# Altium footprint library Connector_Samtec_HSEC8.PcbLib: 133 footprints (part 3 of 9)
Each footprint in its own frame and in the unit in brackets; x right, y up, seen from the top. Pads: shape width x height; smd on the part's side, far side on the other; paste and mask are expansions set on the pad; w line width, h text height; cw(c..) or ccw(c..) is an arc to the next point about the centre after c.
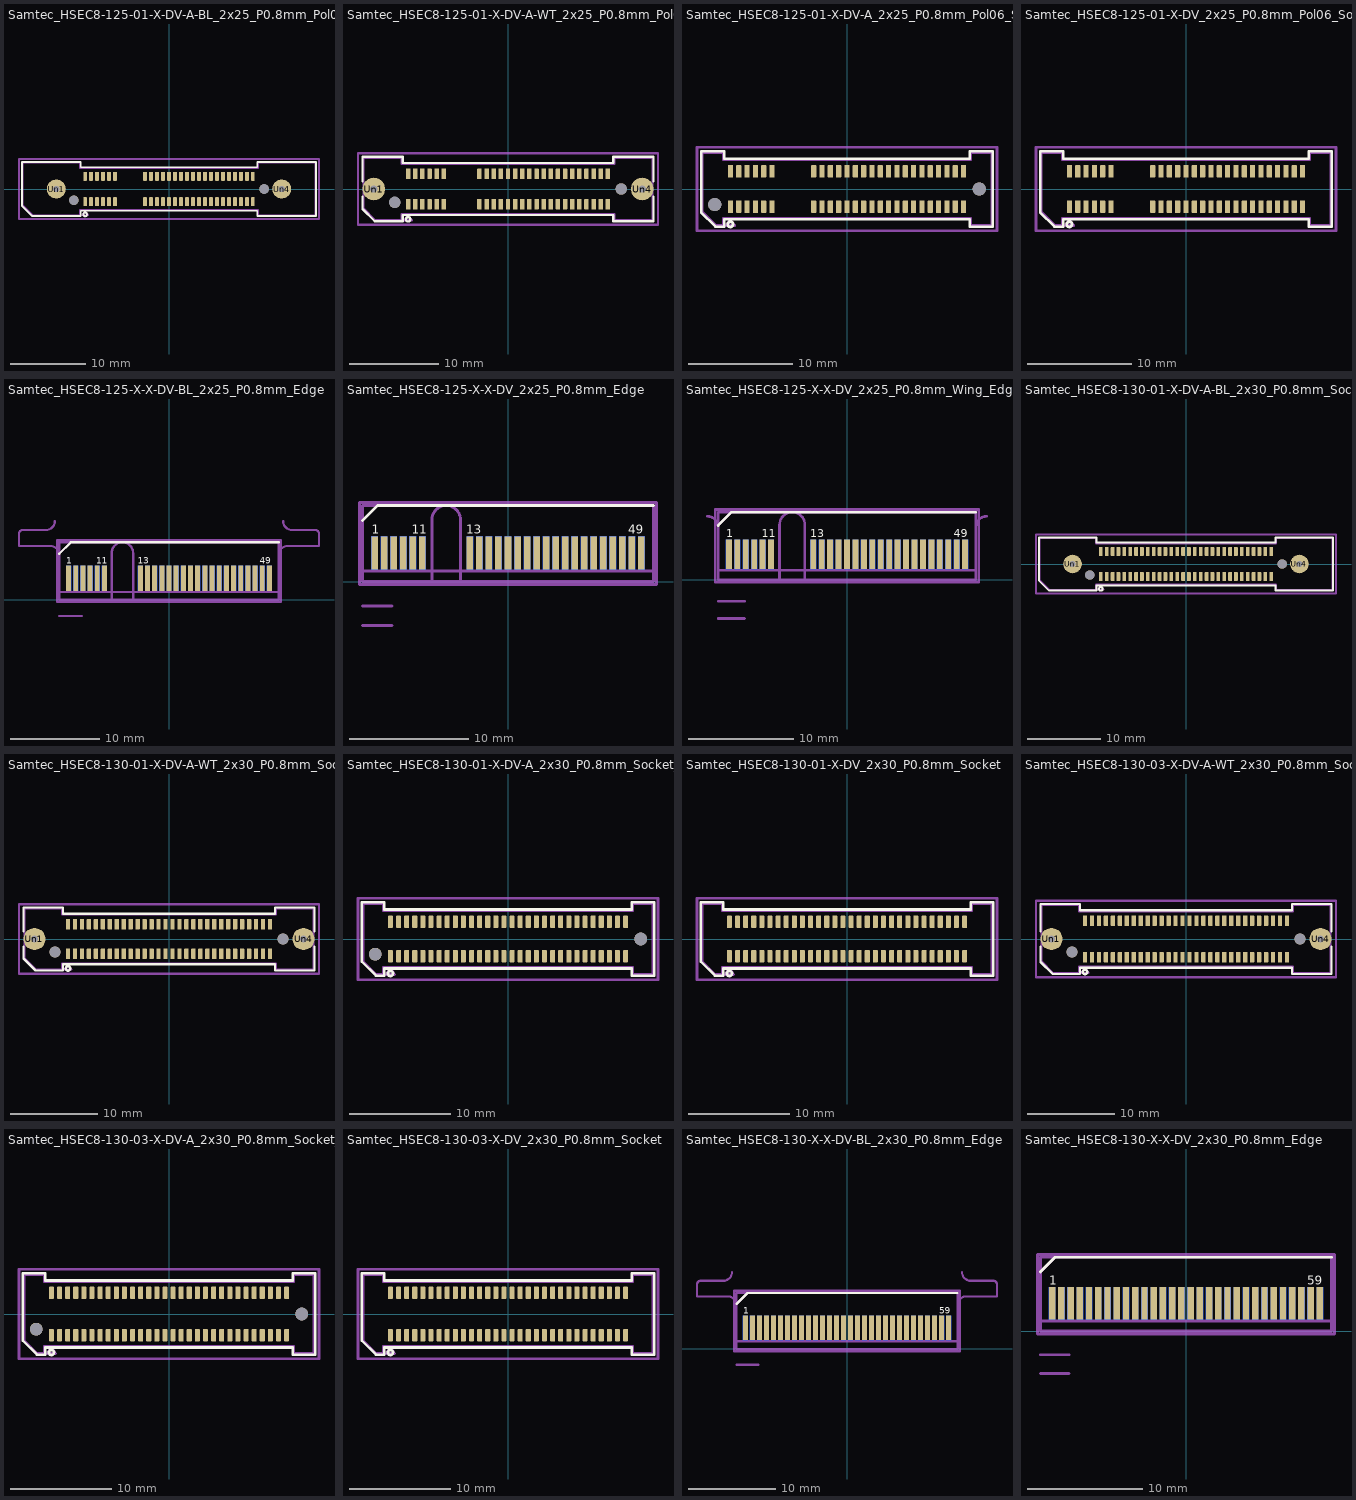
[diagram p2: the footprints below, top view; thin cyan lines are the x and y axes]

## Samtec_HSEC8-125-01-X-DV-A-BL_2x25_P0.8mm_Pol06_Socket_WeldTabs_BoardLocks [mm]
pads (54):
  rrect25% 0.5x1.2 smd: 1(-11.2,-1.7) 2(-11.2,1.7) 3(-10.4,-1.7) 4(-10.4,1.7) 5(-9.6,-1.7) 6(-9.6,1.7) 7(-8.8,-1.7) 8(-8.8,1.7) 9(-8,-1.7) 10(-8,1.7) 11(-7.2,-1.7) 12(-7.2,1.7) 13(-3.2,-1.7) 14(-3.2,1.7) 15(-2.4,-1.7) 16(-2.4,1.7) 17(-1.6,-1.7) 18(-1.6,1.7) 19(-0.8,-1.7) 20(-0.8,1.7) 21(0,-1.7) 22(0,1.7) 23(0.8,-1.7) 24(0.8,1.7) 25(1.6,-1.7) 26(1.6,1.7) 27(2.4,-1.7) 28(2.4,1.7) 29(3.2,-1.7) 30(3.2,1.7) 31(4,-1.7) 32(4,1.7) 33(4.8,-1.7) 34(4.8,1.7) 35(5.6,-1.7) 36(5.6,1.7) 37(6.4,-1.7) 38(6.4,1.7) 39(7.2,-1.7) 40(7.2,1.7) 41(8,-1.7) 42(8,1.7) 43(8.8,-1.7) 44(8.8,1.7) 45(9.6,-1.7) 46(9.6,1.7) 47(10.4,-1.7) 48(10.4,1.7) 49(11.2,-1.7) 50(11.2,1.7)
  round 2.54 hole 0.84: Un1(-15.05,0) Un4(15.05,0)
  round 1.27 hole 1.27: Un2(-12.7,-1.5) Un3(12.7,0)
F.SilkS:
  circle w0.254: c-11.2,-3.4 r0.25
  lines w0.254: -19.635,-2.246 -18.271,-3.61 -11.79,-3.61 -11.79,-2.91 11.79,-2.91 11.79,-3.61 19.635,-3.61 19.635,3.61 11.79,3.61 11.79,2.91 -11.79,2.91 -11.79,3.61 -19.635,3.61 -19.635,-2.246
Top Assembly:
  lines w0.254: -19.525,-2.2 -18.225,-3.5 -11.9,-3.5 -11.9,-2.8 11.9,-2.8 11.9,-3.5 19.525,-3.5 19.525,3.5 11.9,3.5 11.9,2.8 -11.9,2.8 -11.9,3.5 -19.525,3.5 -19.525,-2.2 ; -11.6,-3.5 -10.8,-3.5 -11.2,-2.86 -11.6,-3.5
  text "'.Designator'" at -4.047,-0.84 h1
Top Courtyard:
  lines w0.254: -20.03,-4 20.03,-4 20.03,4 -20.03,4 -20.03,-4
Top Designator:
  text ".Designator" at -7.618,-0.508 h1.52

## Samtec_HSEC8-125-01-X-DV-A-WT_2x25_P0.8mm_Pol06_Socket_WeldTabs [mm]
pads (54):
  rrect25% 0.5x1.2 smd: 1(-11.2,-1.7) 2(-11.2,1.7) 3(-10.4,-1.7) 4(-10.4,1.7) 5(-9.6,-1.7) 6(-9.6,1.7) 7(-8.8,-1.7) 8(-8.8,1.7) 9(-8,-1.7) 10(-8,1.7) 11(-7.2,-1.7) 12(-7.2,1.7) 13(-3.2,-1.7) 14(-3.2,1.7) 15(-2.4,-1.7) 16(-2.4,1.7) 17(-1.6,-1.7) 18(-1.6,1.7) 19(-0.8,-1.7) 20(-0.8,1.7) 21(0,-1.7) 22(0,1.7) 23(0.8,-1.7) 24(0.8,1.7) 25(1.6,-1.7) 26(1.6,1.7) 27(2.4,-1.7) 28(2.4,1.7) 29(3.2,-1.7) 30(3.2,1.7) 31(4,-1.7) 32(4,1.7) 33(4.8,-1.7) 34(4.8,1.7) 35(5.6,-1.7) 36(5.6,1.7) 37(6.4,-1.7) 38(6.4,1.7) 39(7.2,-1.7) 40(7.2,1.7) 41(8,-1.7) 42(8,1.7) 43(8.8,-1.7) 44(8.8,1.7) 45(9.6,-1.7) 46(9.6,1.7) 47(10.4,-1.7) 48(10.4,1.7) 49(11.2,-1.7) 50(11.2,1.7)
  round 2.54 hole 0.84: Un1(-15.05,0) Un4(15.05,0)
  round 1.27 hole 1.27: Un2(-12.7,-1.5) Un3(12.7,0)
F.SilkS:
  circle w0.254: c-11.2,-3.4 r0.25
  lines w0.254: -16.31,-0.868 -16.31,-2.246 -14.946,-3.61 -11.79,-3.61 -11.79,-2.91 11.79,-2.91 11.79,-3.61 16.31,-3.61 16.31,-0.868 ; -16.31,0.868 -16.31,3.61 -11.79,3.61 -11.79,2.91 11.79,2.91 11.79,3.61 16.31,3.61 16.31,0.868
Top Assembly:
  lines w0.254: -16.2,-2.2 -14.9,-3.5 -11.9,-3.5 -11.9,-2.8 11.9,-2.8 11.9,-3.5 16.2,-3.5 16.2,3.5 11.9,3.5 11.9,2.8 -11.9,2.8 -11.9,3.5 -16.2,3.5 -16.2,-2.2 ; -11.6,-3.5 -10.8,-3.5 -11.2,-2.86 -11.6,-3.5
  text "'.Designator'" at -4.047,-0.84 h1
Top Courtyard:
  lines w0.254: -16.82,-4 16.82,-4 16.82,4 -16.82,4 -16.82,-4
Top Designator:
  text ".Designator" at -7.618,-0.508 h1.52

## Samtec_HSEC8-125-01-X-DV-A_2x25_P0.8mm_Pol06_Socket_AlignmentPins [mm]
pads (52):
  rrect25% 0.5x1.2 smd: 1(-11.2,-1.7) 2(-11.2,1.7) 3(-10.4,-1.7) 4(-10.4,1.7) 5(-9.6,-1.7) 6(-9.6,1.7) 7(-8.8,-1.7) 8(-8.8,1.7) 9(-8,-1.7) 10(-8,1.7) 11(-7.2,-1.7) 12(-7.2,1.7) 13(-3.2,-1.7) 14(-3.2,1.7) 15(-2.4,-1.7) 16(-2.4,1.7) 17(-1.6,-1.7) 18(-1.6,1.7) 19(-0.8,-1.7) 20(-0.8,1.7) 21(0,-1.7) 22(0,1.7) 23(0.8,-1.7) 24(0.8,1.7) 25(1.6,-1.7) 26(1.6,1.7) 27(2.4,-1.7) 28(2.4,1.7) 29(3.2,-1.7) 30(3.2,1.7) 31(4,-1.7) 32(4,1.7) 33(4.8,-1.7) 34(4.8,1.7) 35(5.6,-1.7) 36(5.6,1.7) 37(6.4,-1.7) 38(6.4,1.7) 39(7.2,-1.7) 40(7.2,1.7) 41(8,-1.7) 42(8,1.7) 43(8.8,-1.7) 44(8.8,1.7) 45(9.6,-1.7) 46(9.6,1.7) 47(10.4,-1.7) 48(10.4,1.7) 49(11.2,-1.7) 50(11.2,1.7)
  round 1.27 hole 1.27: Un1(-12.7,-1.5) Un2(12.7,0)
F.SilkS:
  circle w0.254: c-11.2,-3.4 r0.25
  lines w0.254: -14.01,-2.246 -12.646,-3.61 -11.79,-3.61 -11.79,-2.91 11.79,-2.91 11.79,-3.61 14.01,-3.61 14.01,3.61 11.79,3.61 11.79,2.91 -11.79,2.91 -11.79,3.61 -14.01,3.61 -14.01,-2.246
Top Assembly:
  lines w0.254: -13.9,-2.2 -12.6,-3.5 -11.9,-3.5 -11.9,-2.8 11.9,-2.8 11.9,-3.5 13.9,-3.5 13.9,3.5 11.9,3.5 11.9,2.8 -11.9,2.8 -11.9,3.5 -13.9,3.5 -13.9,-2.2 ; -11.6,-3.5 -10.8,-3.5 -11.2,-2.86 -11.6,-3.5
  text "'.Designator'" at -4.047,-0.84 h1
Top Courtyard:
  lines w0.254: -14.41,-4 14.41,-4 14.41,4 -14.41,4 -14.41,-4
Top Designator:
  text ".Designator" at -7.618,-0.508 h1.52

## Samtec_HSEC8-125-01-X-DV_2x25_P0.8mm_Pol06_Socket [mm]
pads (50):
  rrect25% 0.5x1.2 smd: 1(-11.2,-1.7) 2(-11.2,1.7) 3(-10.4,-1.7) 4(-10.4,1.7) 5(-9.6,-1.7) 6(-9.6,1.7) 7(-8.8,-1.7) 8(-8.8,1.7) 9(-8,-1.7) 10(-8,1.7) 11(-7.2,-1.7) 12(-7.2,1.7) 13(-3.2,-1.7) 14(-3.2,1.7) 15(-2.4,-1.7) 16(-2.4,1.7) 17(-1.6,-1.7) 18(-1.6,1.7) 19(-0.8,-1.7) 20(-0.8,1.7) 21(0,-1.7) 22(0,1.7) 23(0.8,-1.7) 24(0.8,1.7) 25(1.6,-1.7) 26(1.6,1.7) 27(2.4,-1.7) 28(2.4,1.7) 29(3.2,-1.7) 30(3.2,1.7) 31(4,-1.7) 32(4,1.7) 33(4.8,-1.7) 34(4.8,1.7) 35(5.6,-1.7) 36(5.6,1.7) 37(6.4,-1.7) 38(6.4,1.7) 39(7.2,-1.7) 40(7.2,1.7) 41(8,-1.7) 42(8,1.7) 43(8.8,-1.7) 44(8.8,1.7) 45(9.6,-1.7) 46(9.6,1.7) 47(10.4,-1.7) 48(10.4,1.7) 49(11.2,-1.7) 50(11.2,1.7)
F.SilkS:
  circle w0.254: c-11.2,-3.4 r0.25
  lines w0.254: -14.01,-2.246 -12.646,-3.61 -11.79,-3.61 -11.79,-2.91 11.79,-2.91 11.79,-3.61 14.01,-3.61 14.01,3.61 11.79,3.61 11.79,2.91 -11.79,2.91 -11.79,3.61 -14.01,3.61 -14.01,-2.246
Top Assembly:
  lines w0.254: -13.9,-2.2 -12.6,-3.5 -11.9,-3.5 -11.9,-2.8 11.9,-2.8 11.9,-3.5 13.9,-3.5 13.9,3.5 11.9,3.5 11.9,2.8 -11.9,2.8 -11.9,3.5 -13.9,3.5 -13.9,-2.2 ; -11.6,-3.5 -10.8,-3.5 -11.2,-2.86 -11.6,-3.5
  text "'.Designator'" at -4.047,-0.84 h1
Top Courtyard:
  lines w0.254: -14.41,-4 14.41,-4 14.41,4 -14.41,4 -14.41,-4
Top Designator:
  text ".Designator" at -7.618,-0.508 h1.52

## Samtec_HSEC8-125-X-X-DV-BL_2x25_P0.8mm_Edge [mm]
pads (50):
  rect 0.55x2.8 smd: 1(-11.2,2.4) 3(-10.4,2.4) 5(-9.6,2.4) 7(-8.8,2.4) 9(-8,2.4) 11(-7.2,2.4) 13(-3.2,2.4) 15(-2.4,2.4) 17(-1.6,2.4) 19(-0.8,2.4) 21(0,2.4) 23(0.8,2.4) 25(1.6,2.4) 27(2.4,2.4) 29(3.2,2.4) 31(4,2.4) 33(4.8,2.4) 35(5.6,2.4) 37(6.4,2.4) 39(7.2,2.4) 41(8,2.4) 43(8.8,2.4) 45(9.6,2.4) 47(10.4,2.4) 49(11.2,2.4)
  rect 0.55x2.8 smd far side: 2(-11.2,2.4) 4(-10.4,2.4) 6(-9.6,2.4) 8(-8.8,2.4) 10(-8,2.4) 12(-7.2,2.4) 14(-3.2,2.4) 16(-2.4,2.4) 18(-1.6,2.4) 20(-0.8,2.4) 22(0,2.4) 24(0.8,2.4) 26(1.6,2.4) 28(2.4,2.4) 30(3.2,2.4) 32(4,2.4) 34(4.8,2.4) 36(5.6,2.4) 38(6.4,2.4) 40(7.2,2.4) 42(8,2.4) 44(8.8,2.4) 46(9.6,2.4) 48(10.4,2.4) 50(11.2,2.4)
F.SilkS:
  lines w0.254: -12.225,5.13 -10.955,6.4 12.225,6.4
  text "49" at 10.109,4.025 h0.75
  text "13" at -3.5,4.025 h0.75
  text "11" at -8.089,4.025 h0.75
  text "1" at -11.439,4.025 h0.75
B.SilkS:
  lines w0.254: -12.225,6.4 12.225,6.4
  text "50" at 11.559,4.025 h0.75
  text "14" at -2.132,4.025 h0.75
  text "12" at -6.9,4.025 h0.75
  text "2" at -10.8,4.025 h0.75
Top Assembly:
  lines w0.254: -12.225,0.88 12.225,0.88 ; -12.225,0 12.225,0 12.225,6.4 -10.955,6.4 -12.225,5.13 -12.225,0
  text "'.Designator'" at -4.047,1.7 h1
Bottom Assembly:
  lines w0.254: -12.225,0.88 12.225,0.88 ; -12.225,0 12.225,0 12.225,6.4 -12.225,6.4 -12.225,0
Top Courtyard:
  lines w0.254: -12.48,-0.25 12.48,-0.25 12.48,6.65 -12.48,6.65 -12.48,-0.25
Bottom Courtyard:
  lines w0.254: -12.48,-0.25 12.48,-0.25 12.48,6.65 -12.48,6.65 -12.48,-0.25
Top Designator:
  text ".Designator" at -7.618,2.485 h1.52
Board Shape:
  lines w0.254: -12.725,8.78 cw(c-13.725,8.78) -13.725,7.78 -16.325,7.78 ccw(c-16.325,7.38) -16.725,7.38 -16.725,6 -13.225,6 cw(c-13.225,5) -12.225,5 -12.225,0 -6.395,0 -6.395,5.2 cw(c-5.195,5.2) -3.995,5.2 -3.995,0 12.225,0 12.225,5 cw(c13.225,5) 13.225,6 16.725,6 16.725,7.38 ccw(c16.325,7.38) 16.325,7.78 13.725,7.78 cw(c13.725,8.78) 12.725,8.78
Cmts.User:
  lines w0.254: -12.225,-1.8 -9.725,-1.8
  text "mated PCB distance: 1.80 mm (ref)" at -9.63,-2.521 h0.75
  text "Chamfer 30 degree 0.45 mm" at -7.868,-0.21 h0.75

## Samtec_HSEC8-125-X-X-DV_2x25_P0.8mm_Edge [mm]
pads (50):
  rect 0.55x2.8 smd: 1(-11.2,2.4) 3(-10.4,2.4) 5(-9.6,2.4) 7(-8.8,2.4) 9(-8,2.4) 11(-7.2,2.4) 13(-3.2,2.4) 15(-2.4,2.4) 17(-1.6,2.4) 19(-0.8,2.4) 21(0,2.4) 23(0.8,2.4) 25(1.6,2.4) 27(2.4,2.4) 29(3.2,2.4) 31(4,2.4) 33(4.8,2.4) 35(5.6,2.4) 37(6.4,2.4) 39(7.2,2.4) 41(8,2.4) 43(8.8,2.4) 45(9.6,2.4) 47(10.4,2.4) 49(11.2,2.4)
  rect 0.55x2.8 smd far side: 2(-11.2,2.4) 4(-10.4,2.4) 6(-9.6,2.4) 8(-8.8,2.4) 10(-8,2.4) 12(-7.2,2.4) 14(-3.2,2.4) 16(-2.4,2.4) 18(-1.6,2.4) 20(-0.8,2.4) 22(0,2.4) 24(0.8,2.4) 26(1.6,2.4) 28(2.4,2.4) 30(3.2,2.4) 32(4,2.4) 34(4.8,2.4) 36(5.6,2.4) 38(6.4,2.4) 40(7.2,2.4) 42(8,2.4) 44(8.8,2.4) 46(9.6,2.4) 48(10.4,2.4) 50(11.2,2.4)
F.SilkS:
  lines w0.254: -12.225,5.13 -10.955,6.4 12.225,6.4
  text "49" at 10.109,4.025 h0.75
  text "13" at -3.5,4.025 h0.75
  text "11" at -8.089,4.025 h0.75
  text "1" at -11.439,4.025 h0.75
B.SilkS:
  lines w0.254: -12.225,6.4 12.225,6.4
  text "50" at 11.559,4.025 h0.75
  text "14" at -2.132,4.025 h0.75
  text "12" at -6.9,4.025 h0.75
  text "2" at -10.8,4.025 h0.75
Top Assembly:
  lines w0.254: -12.225,0.88 12.225,0.88 ; -12.225,0 12.225,0 12.225,6.4 -10.955,6.4 -12.225,5.13 -12.225,0
  text "'.Designator'" at -4.047,1.7 h1
Bottom Assembly:
  lines w0.254: -12.225,0.88 12.225,0.88 ; -12.225,0 12.225,0 12.225,6.4 -12.225,6.4 -12.225,0
Top Courtyard:
  lines w0.254: -12.48,-0.25 12.48,-0.25 12.48,6.65 -12.48,6.65 -12.48,-0.25
Bottom Courtyard:
  lines w0.254: -12.48,-0.25 12.48,-0.25 12.48,6.65 -12.48,6.65 -12.48,-0.25
Top Designator:
  text ".Designator" at -7.618,0.475 h1.52
Board Shape:
  lines w0.254: -12.225,5 -12.225,0 -6.395,0 -6.395,5.2 cw(c-5.195,5.2) -3.995,5.2 -3.995,0 12.225,0 12.225,5
Cmts.User:
  lines w0.254: -12.225,-3.69 -9.725,-3.69 ; -12.225,-2.05 -9.725,-2.05
  text "mated PCB distance: 3.69 mm (max)" at -9.63,-4.411 h0.75
  text "mated PCB distance: 2.05 mm (min)" at -9.63,-2.771 h0.75
  text "Chamfer 30 degree 0.45 mm" at -7.868,-0.21 h0.75

## Samtec_HSEC8-125-X-X-DV_2x25_P0.8mm_Wing_Edge [mm]
pads (50):
  rect 0.55x2.8 smd: 1(-11.2,2.4) 3(-10.4,2.4) 5(-9.6,2.4) 7(-8.8,2.4) 9(-8,2.4) 11(-7.2,2.4) 13(-3.2,2.4) 15(-2.4,2.4) 17(-1.6,2.4) 19(-0.8,2.4) 21(0,2.4) 23(0.8,2.4) 25(1.6,2.4) 27(2.4,2.4) 29(3.2,2.4) 31(4,2.4) 33(4.8,2.4) 35(5.6,2.4) 37(6.4,2.4) 39(7.2,2.4) 41(8,2.4) 43(8.8,2.4) 45(9.6,2.4) 47(10.4,2.4) 49(11.2,2.4)
  rect 0.55x2.8 smd far side: 2(-11.2,2.4) 4(-10.4,2.4) 6(-9.6,2.4) 8(-8.8,2.4) 10(-8,2.4) 12(-7.2,2.4) 14(-3.2,2.4) 16(-2.4,2.4) 18(-1.6,2.4) 20(-0.8,2.4) 22(0,2.4) 24(0.8,2.4) 26(1.6,2.4) 28(2.4,2.4) 30(3.2,2.4) 32(4,2.4) 34(4.8,2.4) 36(5.6,2.4) 38(6.4,2.4) 40(7.2,2.4) 42(8,2.4) 44(8.8,2.4) 46(9.6,2.4) 48(10.4,2.4) 50(11.2,2.4)
F.SilkS:
  lines w0.254: -12.225,5.13 -10.955,6.4 12.225,6.4
  text "49" at 10.109,4.025 h0.75
  text "13" at -3.5,4.025 h0.75
  text "11" at -8.089,4.025 h0.75
  text "1" at -11.439,4.025 h0.75
B.SilkS:
  lines w0.254: -12.225,6.4 12.225,6.4
  text "50" at 11.559,4.025 h0.75
  text "14" at -2.132,4.025 h0.75
  text "12" at -6.9,4.025 h0.75
  text "2" at -10.8,4.025 h0.75
Top Assembly:
  lines w0.254: -12.225,0.88 12.225,0.88 ; -12.225,0 12.225,0 12.225,6.4 -10.955,6.4 -12.225,5.13 -12.225,0
  text "'.Designator'" at -4.047,1.7 h1
Bottom Assembly:
  lines w0.254: -12.225,0.88 12.225,0.88 ; -12.225,0 12.225,0 12.225,6.4 -12.225,6.4 -12.225,0
Top Courtyard:
  lines w0.254: -12.48,-0.25 12.48,-0.25 12.48,6.65 -12.48,6.65 -12.48,-0.25
Bottom Courtyard:
  lines w0.254: -12.48,-0.25 12.48,-0.25 12.48,6.65 -12.48,6.65 -12.48,-0.25
Top Designator:
  text ".Designator" at -7.618,0.475 h1.52
Board Shape:
  lines w0.254: -13.225,6 cw(c-13.225,5) -12.225,5 -12.225,0 -6.395,0 -6.395,5.2 cw(c-5.195,5.2) -3.995,5.2 -3.995,0 12.225,0 12.225,5 cw(c13.225,5) 13.225,6
Cmts.User:
  lines w0.254: -12.225,-3.69 -9.725,-3.69 ; -12.225,-2.05 -9.725,-2.05
  text "mated PCB distance: 3.69 mm (max)" at -9.63,-4.411 h0.75
  text "mated PCB distance: 2.05 mm (min)" at -9.63,-2.771 h0.75
  text "Chamfer 30 degree 0.45 mm" at -7.868,-0.21 h0.75

## Samtec_HSEC8-130-01-X-DV-A-BL_2x30_P0.8mm_Socket_WeldTabs_BoardLocks [mm]
pads (64):
  rrect25% 0.5x1.2 smd: 1(-11.6,-1.7) 2(-11.6,1.7) 3(-10.8,-1.7) 4(-10.8,1.7) 5(-10,-1.7) 6(-10,1.7) 7(-9.2,-1.7) 8(-9.2,1.7) 9(-8.4,-1.7) 10(-8.4,1.7) 11(-7.6,-1.7) 12(-7.6,1.7) 13(-6.8,-1.7) 14(-6.8,1.7) 15(-6,-1.7) 16(-6,1.7) 17(-5.2,-1.7) 18(-5.2,1.7) 19(-4.4,-1.7) 20(-4.4,1.7) 21(-3.6,-1.7) 22(-3.6,1.7) 23(-2.8,-1.7) 24(-2.8,1.7) 25(-2,-1.7) 26(-2,1.7) 27(-1.2,-1.7) 28(-1.2,1.7) 29(-0.4,-1.7) 30(-0.4,1.7) 31(0.4,-1.7) 32(0.4,1.7) 33(1.2,-1.7) 34(1.2,1.7) 35(2,-1.7) 36(2,1.7) 37(2.8,-1.7) 38(2.8,1.7) 39(3.6,-1.7) 40(3.6,1.7) 41(4.4,-1.7) 42(4.4,1.7) 43(5.2,-1.7) 44(5.2,1.7) 45(6,-1.7) 46(6,1.7) 47(6.8,-1.7) 48(6.8,1.7) 49(7.6,-1.7) 50(7.6,1.7) 51(8.4,-1.7) 52(8.4,1.7) 53(9.2,-1.7) 54(9.2,1.7) 55(10,-1.7) 56(10,1.7) 57(10.8,-1.7) 58(10.8,1.7) 59(11.6,-1.7) 60(11.6,1.7)
  round 2.54 hole 0.84: Un1(-15.45,0) Un4(15.45,0)
  round 1.27 hole 1.27: Un2(-13.1,-1.5) Un3(13.1,0)
F.SilkS:
  circle w0.254: c-11.6,-3.4 r0.25
  lines w0.254: -20.035,-2.246 -18.671,-3.61 -12.19,-3.61 -12.19,-2.91 12.19,-2.91 12.19,-3.61 20.035,-3.61 20.035,3.61 12.19,3.61 12.19,2.91 -12.19,2.91 -12.19,3.61 -20.035,3.61 -20.035,-2.246
Top Assembly:
  lines w0.254: -19.925,-2.2 -18.625,-3.5 -12.3,-3.5 -12.3,-2.8 12.3,-2.8 12.3,-3.5 19.925,-3.5 19.925,3.5 12.3,3.5 12.3,2.8 -12.3,2.8 -12.3,3.5 -19.925,3.5 -19.925,-2.2 ; -12,-3.5 -11.2,-3.5 -11.6,-2.86 -12,-3.5
  text "'.Designator'" at -4.047,-0.84 h1
Top Courtyard:
  lines w0.254: -20.43,-4 20.43,-4 20.43,4 -20.43,4 -20.43,-4
Top Designator:
  text ".Designator" at -7.618,-0.508 h1.52

## Samtec_HSEC8-130-01-X-DV-A-WT_2x30_P0.8mm_Socket_WeldTabs [mm]
pads (64):
  rrect25% 0.5x1.2 smd: 1(-11.6,-1.7) 2(-11.6,1.7) 3(-10.8,-1.7) 4(-10.8,1.7) 5(-10,-1.7) 6(-10,1.7) 7(-9.2,-1.7) 8(-9.2,1.7) 9(-8.4,-1.7) 10(-8.4,1.7) 11(-7.6,-1.7) 12(-7.6,1.7) 13(-6.8,-1.7) 14(-6.8,1.7) 15(-6,-1.7) 16(-6,1.7) 17(-5.2,-1.7) 18(-5.2,1.7) 19(-4.4,-1.7) 20(-4.4,1.7) 21(-3.6,-1.7) 22(-3.6,1.7) 23(-2.8,-1.7) 24(-2.8,1.7) 25(-2,-1.7) 26(-2,1.7) 27(-1.2,-1.7) 28(-1.2,1.7) 29(-0.4,-1.7) 30(-0.4,1.7) 31(0.4,-1.7) 32(0.4,1.7) 33(1.2,-1.7) 34(1.2,1.7) 35(2,-1.7) 36(2,1.7) 37(2.8,-1.7) 38(2.8,1.7) 39(3.6,-1.7) 40(3.6,1.7) 41(4.4,-1.7) 42(4.4,1.7) 43(5.2,-1.7) 44(5.2,1.7) 45(6,-1.7) 46(6,1.7) 47(6.8,-1.7) 48(6.8,1.7) 49(7.6,-1.7) 50(7.6,1.7) 51(8.4,-1.7) 52(8.4,1.7) 53(9.2,-1.7) 54(9.2,1.7) 55(10,-1.7) 56(10,1.7) 57(10.8,-1.7) 58(10.8,1.7) 59(11.6,-1.7) 60(11.6,1.7)
  round 2.54 hole 0.84: Un1(-15.45,0) Un4(15.45,0)
  round 1.27 hole 1.27: Un2(-13.1,-1.5) Un3(13.1,0)
F.SilkS:
  circle w0.254: c-11.6,-3.4 r0.25
  lines w0.254: -16.71,-0.868 -16.71,-2.246 -15.346,-3.61 -12.19,-3.61 -12.19,-2.91 12.19,-2.91 12.19,-3.61 16.71,-3.61 16.71,-0.868 ; -16.71,0.868 -16.71,3.61 -12.19,3.61 -12.19,2.91 12.19,2.91 12.19,3.61 16.71,3.61 16.71,0.868
Top Assembly:
  lines w0.254: -16.6,-2.2 -15.3,-3.5 -12.3,-3.5 -12.3,-2.8 12.3,-2.8 12.3,-3.5 16.6,-3.5 16.6,3.5 12.3,3.5 12.3,2.8 -12.3,2.8 -12.3,3.5 -16.6,3.5 -16.6,-2.2 ; -12,-3.5 -11.2,-3.5 -11.6,-2.86 -12,-3.5
  text "'.Designator'" at -4.047,-0.84 h1
Top Courtyard:
  lines w0.254: -17.23,-4 17.23,-4 17.23,4 -17.23,4 -17.23,-4
Top Designator:
  text ".Designator" at -7.618,-0.508 h1.52

## Samtec_HSEC8-130-01-X-DV-A_2x30_P0.8mm_Socket_AlignmentPins [mm]
pads (62):
  rrect25% 0.5x1.2 smd: 1(-11.6,-1.7) 2(-11.6,1.7) 3(-10.8,-1.7) 4(-10.8,1.7) 5(-10,-1.7) 6(-10,1.7) 7(-9.2,-1.7) 8(-9.2,1.7) 9(-8.4,-1.7) 10(-8.4,1.7) 11(-7.6,-1.7) 12(-7.6,1.7) 13(-6.8,-1.7) 14(-6.8,1.7) 15(-6,-1.7) 16(-6,1.7) 17(-5.2,-1.7) 18(-5.2,1.7) 19(-4.4,-1.7) 20(-4.4,1.7) 21(-3.6,-1.7) 22(-3.6,1.7) 23(-2.8,-1.7) 24(-2.8,1.7) 25(-2,-1.7) 26(-2,1.7) 27(-1.2,-1.7) 28(-1.2,1.7) 29(-0.4,-1.7) 30(-0.4,1.7) 31(0.4,-1.7) 32(0.4,1.7) 33(1.2,-1.7) 34(1.2,1.7) 35(2,-1.7) 36(2,1.7) 37(2.8,-1.7) 38(2.8,1.7) 39(3.6,-1.7) 40(3.6,1.7) 41(4.4,-1.7) 42(4.4,1.7) 43(5.2,-1.7) 44(5.2,1.7) 45(6,-1.7) 46(6,1.7) 47(6.8,-1.7) 48(6.8,1.7) 49(7.6,-1.7) 50(7.6,1.7) 51(8.4,-1.7) 52(8.4,1.7) 53(9.2,-1.7) 54(9.2,1.7) 55(10,-1.7) 56(10,1.7) 57(10.8,-1.7) 58(10.8,1.7) 59(11.6,-1.7) 60(11.6,1.7)
  round 1.27 hole 1.27: Un1(-13.1,-1.5) Un2(13.1,0)
F.SilkS:
  circle w0.254: c-11.6,-3.4 r0.25
  lines w0.254: -14.41,-2.246 -13.046,-3.61 -12.19,-3.61 -12.19,-2.91 12.19,-2.91 12.19,-3.61 14.41,-3.61 14.41,3.61 12.19,3.61 12.19,2.91 -12.19,2.91 -12.19,3.61 -14.41,3.61 -14.41,-2.246
Top Assembly:
  lines w0.254: -14.3,-2.2 -13,-3.5 -12.3,-3.5 -12.3,-2.8 12.3,-2.8 12.3,-3.5 14.3,-3.5 14.3,3.5 12.3,3.5 12.3,2.8 -12.3,2.8 -12.3,3.5 -14.3,3.5 -14.3,-2.2 ; -12,-3.5 -11.2,-3.5 -11.6,-2.86 -12,-3.5
  text "'.Designator'" at -4.047,-0.84 h1
Top Courtyard:
  lines w0.254: -14.8,-4 14.8,-4 14.8,4 -14.8,4 -14.8,-4
Top Designator:
  text ".Designator" at -7.618,-0.508 h1.52

## Samtec_HSEC8-130-01-X-DV_2x30_P0.8mm_Socket [mm]
pads (60):
  rrect25% 0.5x1.2 smd: 1(-11.6,-1.7) 2(-11.6,1.7) 3(-10.8,-1.7) 4(-10.8,1.7) 5(-10,-1.7) 6(-10,1.7) 7(-9.2,-1.7) 8(-9.2,1.7) 9(-8.4,-1.7) 10(-8.4,1.7) 11(-7.6,-1.7) 12(-7.6,1.7) 13(-6.8,-1.7) 14(-6.8,1.7) 15(-6,-1.7) 16(-6,1.7) 17(-5.2,-1.7) 18(-5.2,1.7) 19(-4.4,-1.7) 20(-4.4,1.7) 21(-3.6,-1.7) 22(-3.6,1.7) 23(-2.8,-1.7) 24(-2.8,1.7) 25(-2,-1.7) 26(-2,1.7) 27(-1.2,-1.7) 28(-1.2,1.7) 29(-0.4,-1.7) 30(-0.4,1.7) 31(0.4,-1.7) 32(0.4,1.7) 33(1.2,-1.7) 34(1.2,1.7) 35(2,-1.7) 36(2,1.7) 37(2.8,-1.7) 38(2.8,1.7) 39(3.6,-1.7) 40(3.6,1.7) 41(4.4,-1.7) 42(4.4,1.7) 43(5.2,-1.7) 44(5.2,1.7) 45(6,-1.7) 46(6,1.7) 47(6.8,-1.7) 48(6.8,1.7) 49(7.6,-1.7) 50(7.6,1.7) 51(8.4,-1.7) 52(8.4,1.7) 53(9.2,-1.7) 54(9.2,1.7) 55(10,-1.7) 56(10,1.7) 57(10.8,-1.7) 58(10.8,1.7) 59(11.6,-1.7) 60(11.6,1.7)
F.SilkS:
  circle w0.254: c-11.6,-3.4 r0.25
  lines w0.254: -14.41,-2.246 -13.046,-3.61 -12.19,-3.61 -12.19,-2.91 12.19,-2.91 12.19,-3.61 14.41,-3.61 14.41,3.61 12.19,3.61 12.19,2.91 -12.19,2.91 -12.19,3.61 -14.41,3.61 -14.41,-2.246
Top Assembly:
  lines w0.254: -14.3,-2.2 -13,-3.5 -12.3,-3.5 -12.3,-2.8 12.3,-2.8 12.3,-3.5 14.3,-3.5 14.3,3.5 12.3,3.5 12.3,2.8 -12.3,2.8 -12.3,3.5 -14.3,3.5 -14.3,-2.2 ; -12,-3.5 -11.2,-3.5 -11.6,-2.86 -12,-3.5
  text "'.Designator'" at -4.047,-0.84 h1
Top Courtyard:
  lines w0.254: -14.8,-4 14.8,-4 14.8,4 -14.8,4 -14.8,-4
Top Designator:
  text ".Designator" at -7.618,-0.508 h1.52

## Samtec_HSEC8-130-03-X-DV-A-WT_2x30_P0.8mm_Socket_WeldTabs [mm]
pads (64):
  rrect25% 0.5x1.2 smd: 1(-11.6,-2.095) 2(-11.6,2.095) 3(-10.8,-2.095) 4(-10.8,2.095) 5(-10,-2.095) 6(-10,2.095) 7(-9.2,-2.095) 8(-9.2,2.095) 9(-8.4,-2.095) 10(-8.4,2.095) 11(-7.6,-2.095) 12(-7.6,2.095) 13(-6.8,-2.095) 14(-6.8,2.095) 15(-6,-2.095) 16(-6,2.095) 17(-5.2,-2.095) 18(-5.2,2.095) 19(-4.4,-2.095) 20(-4.4,2.095) 21(-3.6,-2.095) 22(-3.6,2.095) 23(-2.8,-2.095) 24(-2.8,2.095) 25(-2,-2.095) 26(-2,2.095) 27(-1.2,-2.095) 28(-1.2,2.095) 29(-0.4,-2.095) 30(-0.4,2.095) 31(0.4,-2.095) 32(0.4,2.095) 33(1.2,-2.095) 34(1.2,2.095) 35(2,-2.095) 36(2,2.095) 37(2.8,-2.095) 38(2.8,2.095) 39(3.6,-2.095) 40(3.6,2.095) 41(4.4,-2.095) 42(4.4,2.095) 43(5.2,-2.095) 44(5.2,2.095) 45(6,-2.095) 46(6,2.095) 47(6.8,-2.095) 48(6.8,2.095) 49(7.6,-2.095) 50(7.6,2.095) 51(8.4,-2.095) 52(8.4,2.095) 53(9.2,-2.095) 54(9.2,2.095) 55(10,-2.095) 56(10,2.095) 57(10.8,-2.095) 58(10.8,2.095) 59(11.6,-2.095) 60(11.6,2.095)
  round 2.54 hole 0.84: Un1(-15.45,0) Un4(15.45,0)
  round 1.27 hole 1.27: Un2(-13.1,-1.5) Un3(13.1,0)
F.SilkS:
  circle w0.254: c-11.6,-3.795 r0.25
  lines w0.254: -16.71,-0.868 -16.71,-2.641 -15.346,-4.005 -12.19,-4.005 -12.19,-3.305 12.19,-3.305 12.19,-4.005 16.71,-4.005 16.71,-0.868 ; -16.71,0.868 -16.71,4.005 -12.19,4.005 -12.19,3.305 12.19,3.305 12.19,4.005 16.71,4.005 16.71,0.868
Top Assembly:
  lines w0.254: -16.6,-2.595 -15.3,-3.895 -12.3,-3.895 -12.3,-3.195 12.3,-3.195 12.3,-3.895 16.6,-3.895 16.6,3.895 12.3,3.895 12.3,3.195 -12.3,3.195 -12.3,3.895 -16.6,3.895 -16.6,-2.595 ; -12,-3.895 -11.2,-3.895 -11.6,-3.255 -12,-3.895
  text "'.Designator'" at -4.047,-0.84 h1
Top Courtyard:
  lines w0.254: -17.23,-4.4 17.23,-4.4 17.23,4.4 -17.23,4.4 -17.23,-4.4
Top Designator:
  text ".Designator" at -7.618,-0.508 h1.52

## Samtec_HSEC8-130-03-X-DV-A_2x30_P0.8mm_Socket_AlignmentPins [mm]
pads (62):
  rrect25% 0.5x1.2 smd: 1(-11.6,-2.095) 2(-11.6,2.095) 3(-10.8,-2.095) 4(-10.8,2.095) 5(-10,-2.095) 6(-10,2.095) 7(-9.2,-2.095) 8(-9.2,2.095) 9(-8.4,-2.095) 10(-8.4,2.095) 11(-7.6,-2.095) 12(-7.6,2.095) 13(-6.8,-2.095) 14(-6.8,2.095) 15(-6,-2.095) 16(-6,2.095) 17(-5.2,-2.095) 18(-5.2,2.095) 19(-4.4,-2.095) 20(-4.4,2.095) 21(-3.6,-2.095) 22(-3.6,2.095) 23(-2.8,-2.095) 24(-2.8,2.095) 25(-2,-2.095) 26(-2,2.095) 27(-1.2,-2.095) 28(-1.2,2.095) 29(-0.4,-2.095) 30(-0.4,2.095) 31(0.4,-2.095) 32(0.4,2.095) 33(1.2,-2.095) 34(1.2,2.095) 35(2,-2.095) 36(2,2.095) 37(2.8,-2.095) 38(2.8,2.095) 39(3.6,-2.095) 40(3.6,2.095) 41(4.4,-2.095) 42(4.4,2.095) 43(5.2,-2.095) 44(5.2,2.095) 45(6,-2.095) 46(6,2.095) 47(6.8,-2.095) 48(6.8,2.095) 49(7.6,-2.095) 50(7.6,2.095) 51(8.4,-2.095) 52(8.4,2.095) 53(9.2,-2.095) 54(9.2,2.095) 55(10,-2.095) 56(10,2.095) 57(10.8,-2.095) 58(10.8,2.095) 59(11.6,-2.095) 60(11.6,2.095)
  round 1.27 hole 1.27: Un1(-13.1,-1.5) Un2(13.1,0)
F.SilkS:
  circle w0.254: c-11.6,-3.795 r0.25
  lines w0.254: -14.41,-2.641 -13.046,-4.005 -12.19,-4.005 -12.19,-3.305 12.19,-3.305 12.19,-4.005 14.41,-4.005 14.41,4.005 12.19,4.005 12.19,3.305 -12.19,3.305 -12.19,4.005 -14.41,4.005 -14.41,-2.641
Top Assembly:
  lines w0.254: -14.3,-2.595 -13,-3.895 -12.3,-3.895 -12.3,-3.195 12.3,-3.195 12.3,-3.895 14.3,-3.895 14.3,3.895 12.3,3.895 12.3,3.195 -12.3,3.195 -12.3,3.895 -14.3,3.895 -14.3,-2.595 ; -12,-3.895 -11.2,-3.895 -11.6,-3.255 -12,-3.895
  text "'.Designator'" at -4.047,-0.84 h1
Top Courtyard:
  lines w0.254: -14.8,-4.4 14.8,-4.4 14.8,4.4 -14.8,4.4 -14.8,-4.4
Top Designator:
  text ".Designator" at -7.618,-0.508 h1.52

## Samtec_HSEC8-130-03-X-DV_2x30_P0.8mm_Socket [mm]
pads (60):
  rrect25% 0.5x1.2 smd: 1(-11.6,-2.095) 2(-11.6,2.095) 3(-10.8,-2.095) 4(-10.8,2.095) 5(-10,-2.095) 6(-10,2.095) 7(-9.2,-2.095) 8(-9.2,2.095) 9(-8.4,-2.095) 10(-8.4,2.095) 11(-7.6,-2.095) 12(-7.6,2.095) 13(-6.8,-2.095) 14(-6.8,2.095) 15(-6,-2.095) 16(-6,2.095) 17(-5.2,-2.095) 18(-5.2,2.095) 19(-4.4,-2.095) 20(-4.4,2.095) 21(-3.6,-2.095) 22(-3.6,2.095) 23(-2.8,-2.095) 24(-2.8,2.095) 25(-2,-2.095) 26(-2,2.095) 27(-1.2,-2.095) 28(-1.2,2.095) 29(-0.4,-2.095) 30(-0.4,2.095) 31(0.4,-2.095) 32(0.4,2.095) 33(1.2,-2.095) 34(1.2,2.095) 35(2,-2.095) 36(2,2.095) 37(2.8,-2.095) 38(2.8,2.095) 39(3.6,-2.095) 40(3.6,2.095) 41(4.4,-2.095) 42(4.4,2.095) 43(5.2,-2.095) 44(5.2,2.095) 45(6,-2.095) 46(6,2.095) 47(6.8,-2.095) 48(6.8,2.095) 49(7.6,-2.095) 50(7.6,2.095) 51(8.4,-2.095) 52(8.4,2.095) 53(9.2,-2.095) 54(9.2,2.095) 55(10,-2.095) 56(10,2.095) 57(10.8,-2.095) 58(10.8,2.095) 59(11.6,-2.095) 60(11.6,2.095)
F.SilkS:
  circle w0.254: c-11.6,-3.795 r0.25
  lines w0.254: -14.41,-2.641 -13.046,-4.005 -12.19,-4.005 -12.19,-3.305 12.19,-3.305 12.19,-4.005 14.41,-4.005 14.41,4.005 12.19,4.005 12.19,3.305 -12.19,3.305 -12.19,4.005 -14.41,4.005 -14.41,-2.641
Top Assembly:
  lines w0.254: -14.3,-2.595 -13,-3.895 -12.3,-3.895 -12.3,-3.195 12.3,-3.195 12.3,-3.895 14.3,-3.895 14.3,3.895 12.3,3.895 12.3,3.195 -12.3,3.195 -12.3,3.895 -14.3,3.895 -14.3,-2.595 ; -12,-3.895 -11.2,-3.895 -11.6,-3.255 -12,-3.895
  text "'.Designator'" at -4.047,-0.84 h1
Top Courtyard:
  lines w0.254: -14.8,-4.4 14.8,-4.4 14.8,4.4 -14.8,4.4 -14.8,-4.4
Top Designator:
  text ".Designator" at -7.618,-0.508 h1.52

## Samtec_HSEC8-130-X-X-DV-BL_2x30_P0.8mm_Edge [mm]
pads (60):
  rect 0.55x2.8 smd: 1(-11.6,2.4) 3(-10.8,2.4) 5(-10,2.4) 7(-9.2,2.4) 9(-8.4,2.4) 11(-7.6,2.4) 13(-6.8,2.4) 15(-6,2.4) 17(-5.2,2.4) 19(-4.4,2.4) 21(-3.6,2.4) 23(-2.8,2.4) 25(-2,2.4) 27(-1.2,2.4) 29(-0.4,2.4) 31(0.4,2.4) 33(1.2,2.4) 35(2,2.4) 37(2.8,2.4) 39(3.6,2.4) 41(4.4,2.4) 43(5.2,2.4) 45(6,2.4) 47(6.8,2.4) 49(7.6,2.4) 51(8.4,2.4) 53(9.2,2.4) 55(10,2.4) 57(10.8,2.4) 59(11.6,2.4)
  rect 0.55x2.8 smd far side: 2(-11.6,2.4) 4(-10.8,2.4) 6(-10,2.4) 8(-9.2,2.4) 10(-8.4,2.4) 12(-7.6,2.4) 14(-6.8,2.4) 16(-6,2.4) 18(-5.2,2.4) 20(-4.4,2.4) 22(-3.6,2.4) 24(-2.8,2.4) 26(-2,2.4) 28(-1.2,2.4) 30(-0.4,2.4) 32(0.4,2.4) 34(1.2,2.4) 36(2,2.4) 38(2.8,2.4) 40(3.6,2.4) 42(4.4,2.4) 44(5.2,2.4) 46(6,2.4) 48(6.8,2.4) 50(7.6,2.4) 52(8.4,2.4) 54(9.2,2.4) 56(10,2.4) 58(10.8,2.4) 60(11.6,2.4)
F.SilkS:
  lines w0.254: -12.625,5.13 -11.355,6.4 12.625,6.4
  text "59" at 10.509,4.025 h0.75
  text "1" at -11.839,4.025 h0.75
B.SilkS:
  lines w0.254: -12.625,6.4 12.625,6.4
  text "60" at 11.939,4.025 h0.75
  text "2" at -11.2,4.025 h0.75
Top Assembly:
  lines w0.254: -12.625,0.88 12.625,0.88 ; -12.625,0 12.625,0 12.625,6.4 -11.355,6.4 -12.625,5.13 -12.625,0
  text "'.Designator'" at -4.047,1.7 h1
Bottom Assembly:
  lines w0.254: -12.625,0.88 12.625,0.88 ; -12.625,0 12.625,0 12.625,6.4 -12.625,6.4 -12.625,0
Top Courtyard:
  lines w0.254: -12.88,-0.25 12.88,-0.25 12.88,6.65 -12.88,6.65 -12.88,-0.25
Bottom Courtyard:
  lines w0.254: -12.88,-0.25 12.88,-0.25 12.88,6.65 -12.88,6.65 -12.88,-0.25
Top Designator:
  text ".Designator" at -7.618,2.485 h1.52
Board Shape:
  lines w0.254: -13.125,8.78 cw(c-14.125,8.78) -14.125,7.78 -16.725,7.78 ccw(c-16.725,7.38) -17.125,7.38 -17.125,6 -13.625,6 cw(c-13.625,5) -12.625,5 -12.625,0 12.625,0 12.625,5 cw(c13.625,5) 13.625,6 17.125,6 17.125,7.38 ccw(c16.725,7.38) 16.725,7.78 14.125,7.78 cw(c14.125,8.78) 13.125,8.78
Cmts.User:
  lines w0.254: -12.625,-1.8 -10.125,-1.8
  text "mated PCB distance: 1.80 mm (ref)" at -10.03,-2.521 h0.75
  text "Chamfer 30 degree 0.45 mm" at -7.868,-0.21 h0.75

## Samtec_HSEC8-130-X-X-DV_2x30_P0.8mm_Edge [mm]
pads (60):
  rect 0.55x2.8 smd: 1(-11.6,2.4) 3(-10.8,2.4) 5(-10,2.4) 7(-9.2,2.4) 9(-8.4,2.4) 11(-7.6,2.4) 13(-6.8,2.4) 15(-6,2.4) 17(-5.2,2.4) 19(-4.4,2.4) 21(-3.6,2.4) 23(-2.8,2.4) 25(-2,2.4) 27(-1.2,2.4) 29(-0.4,2.4) 31(0.4,2.4) 33(1.2,2.4) 35(2,2.4) 37(2.8,2.4) 39(3.6,2.4) 41(4.4,2.4) 43(5.2,2.4) 45(6,2.4) 47(6.8,2.4) 49(7.6,2.4) 51(8.4,2.4) 53(9.2,2.4) 55(10,2.4) 57(10.8,2.4) 59(11.6,2.4)
  rect 0.55x2.8 smd far side: 2(-11.6,2.4) 4(-10.8,2.4) 6(-10,2.4) 8(-9.2,2.4) 10(-8.4,2.4) 12(-7.6,2.4) 14(-6.8,2.4) 16(-6,2.4) 18(-5.2,2.4) 20(-4.4,2.4) 22(-3.6,2.4) 24(-2.8,2.4) 26(-2,2.4) 28(-1.2,2.4) 30(-0.4,2.4) 32(0.4,2.4) 34(1.2,2.4) 36(2,2.4) 38(2.8,2.4) 40(3.6,2.4) 42(4.4,2.4) 44(5.2,2.4) 46(6,2.4) 48(6.8,2.4) 50(7.6,2.4) 52(8.4,2.4) 54(9.2,2.4) 56(10,2.4) 58(10.8,2.4) 60(11.6,2.4)
F.SilkS:
  lines w0.254: -12.625,5.13 -11.355,6.4 12.625,6.4
  text "59" at 10.509,4.025 h0.75
  text "1" at -11.839,4.025 h0.75
B.SilkS:
  lines w0.254: -12.625,6.4 12.625,6.4
  text "60" at 11.939,4.025 h0.75
  text "2" at -11.2,4.025 h0.75
Top Assembly:
  lines w0.254: -12.625,0.88 12.625,0.88 ; -12.625,0 12.625,0 12.625,6.4 -11.355,6.4 -12.625,5.13 -12.625,0
  text "'.Designator'" at -4.047,1.7 h1
Bottom Assembly:
  lines w0.254: -12.625,0.88 12.625,0.88 ; -12.625,0 12.625,0 12.625,6.4 -12.625,6.4 -12.625,0
Top Courtyard:
  lines w0.254: -12.88,-0.25 12.88,-0.25 12.88,6.65 -12.88,6.65 -12.88,-0.25
Bottom Courtyard:
  lines w0.254: -12.88,-0.25 12.88,-0.25 12.88,6.65 -12.88,6.65 -12.88,-0.25
Top Designator:
  text ".Designator" at -7.618,0.475 h1.52
Board Shape:
  lines w0.254: -12.625,5 -12.625,0 12.625,0 12.625,5
Cmts.User:
  lines w0.254: -12.625,-3.69 -10.125,-3.69 ; -12.625,-2.05 -10.125,-2.05
  text "mated PCB distance: 3.69 mm (max)" at -10.03,-4.411 h0.75
  text "mated PCB distance: 2.05 mm (min)" at -10.03,-2.771 h0.75
  text "Chamfer 30 degree 0.45 mm" at -7.868,-0.21 h0.75